# EAGLE library part PICAXE-14M2 (library bt_pic)
PICAXE 14 pin BASIC microcontroller chip PICAXE is a neat entry-level microcontroller system that is relatively cheap to get started with. The chip is programmed with a simple serial connection and the BASIC development environment is free! PICAXE has some excellent educational applications and support, and is a great entryway into more complicated embedded systems. If you’re look for a place to start with microcontrollers, PICAXE is a great way to go! datasheet.pdf <http://www.rev-ed.co.uk/docs/picaxe_manual1.pdf>
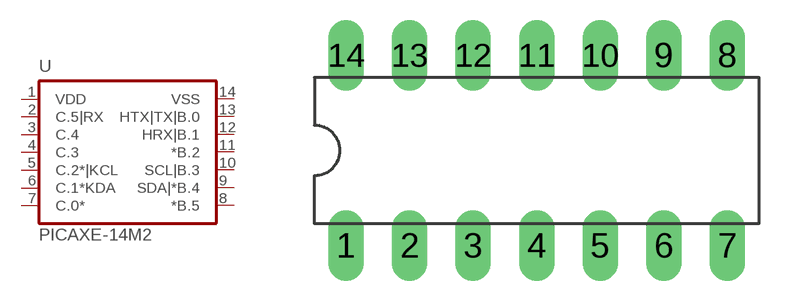
[diagram p13: symbol with the pads of DIL14; footprint DIL14]

Designator prefix U

## PICAXE-14M2  [DIL14]
1  VDD  pwr
2  C.5|RX  in
3  C.4
4  C.3  in
5  C.2*|KCL
6  C.1*KDA
7  C.0*
8  *B.5
9  SDA|*B.4
10  SCL|B.3
11  *B.2
12  HRX|B.1
13  HTX|TX|B.0  out
14  VSS  pwr

## Footprint DIL14 (pad centres in mm)
drill 0.813 pad 1.422 long: 1 -7.62,-3.81; 2 -5.08,-3.81; 3 -2.54,-3.81; 4 0,-3.81; 5 2.54,-3.81; 6 5.08,-3.81; 7 7.62,-3.81; 8 7.62,3.81; 9 5.08,3.81; 10 2.54,3.81; 11 0,3.81; 12 -2.54,3.81; 13 -5.08,3.81; 14 -7.62,3.81